# Altium integrated library NSC RF and IF Receiver.IntLib: 2 symbols
Pins are listed as number, name and electrical type; pins without a type are passive.

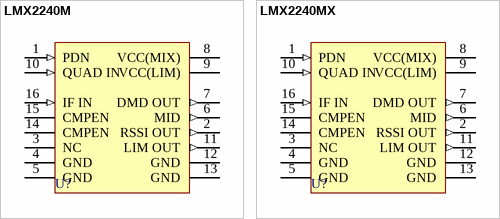
[diagram p0: symbols LMX2240M to LMX2240MX]

## LMX2240M
designator U?
Intermediate Frequency Receiver; ComponentAvailability: Obsolete; Published: 15-Apr-2002; LatestRevisionDate: 13-Apr-2006; LatestRevisionNote: IPC-7351 Footprint Added.; DatasheetVersion: Apr-1995; PackageVersion: 2000; PackageReference: M16A; Publisher: Altium Limited; PackageDescription: 16-Pin Small Outline Integrated Circuit 1.27 mm Pitch; Code_IPC: SOIC127P600-16; ComponentLink1Description: Manufacturer Link; ComponentLink1URL: http://www.national.com/; ComponentLink2Description: Discontinuation Notice; ComponentLink2URL: http://www.national.com/obs/obsolescence.txt; ComponentLink3Description: URL Link1; ComponentLink3URL: http://www.national.com/pf/LM/LMX2240.html
footprint M16A_N (SOIC, 16-Leads, Body 9.9x3.9mm, Pitch 1.27mm, IPC Medium Density)
footprint M16A_L (SOIC, 16-Leads, Body 9.9x3.9mm, Pitch 1.27mm, IPC High Density)
footprint M16A_M (SOIC, 16-Leads, Body 9.9x3.9mm, Pitch 1.27mm, IPC Low Density)
3D model M16A (16-Pin Small Outline Integrated Circuit 1.27 mm Pitch)
pins: 1 PDN (in), 2 RSSI OUT (out), 3 NC, 4 GND (power), 5 GND (power), 6 MID (out), 7 DMD OUT (out), 8 VCC(MIX) (power), 9 VCC(LIM) (power), 10 QUAD IN (in), 11 LIM OUT (out), 12 GND (power), 13 GND (power), 14 CMPEN, 15 CMPEN, 16 IF IN (in)

## LMX2240MX
designator U?
Intermediate Frequency Receiver; ComponentAvailability: Obsolete; Published: 15-Apr-2002; LatestRevisionDate: 13-Apr-2006; LatestRevisionNote: IPC-7351 Footprint Added.; DatasheetVersion: Apr-1995; PackageVersion: 2000; PackageReference: M16A; Publisher: Altium Limited; PackageDescription: 16-Pin Small Outline Integrated Circuit 1.27 mm Pitch; Code_IPC: SOIC127P600-16; ComponentLink1Description: Manufacturer Link; ComponentLink1URL: http://www.national.com/; ComponentLink2Description: Discontinuation Notice; ComponentLink2URL: http://www.national.com/obs/obsolescence.txt; ComponentLink3Description: URL Link1; ComponentLink3URL: http://www.national.com/pf/LM/LMX2240.html
footprint M16A_N (SOIC, 16-Leads, Body 9.9x3.9mm, Pitch 1.27mm, IPC Medium Density)
footprint M16A_L (SOIC, 16-Leads, Body 9.9x3.9mm, Pitch 1.27mm, IPC High Density)
footprint M16A_M (SOIC, 16-Leads, Body 9.9x3.9mm, Pitch 1.27mm, IPC Low Density)
3D model M16A (16-Pin Small Outline Integrated Circuit 1.27 mm Pitch)
pins: 1 PDN (in), 2 RSSI OUT (out), 3 NC, 4 GND (power), 5 GND (power), 6 MID (out), 7 DMD OUT (out), 8 VCC(MIX) (power), 9 VCC(LIM) (power), 10 QUAD IN (in), 11 LIM OUT (out), 12 GND (power), 13 GND (power), 14 CMPEN, 15 CMPEN, 16 IF IN (in)